# EAGLE library part RFM01A (library RFMxx)
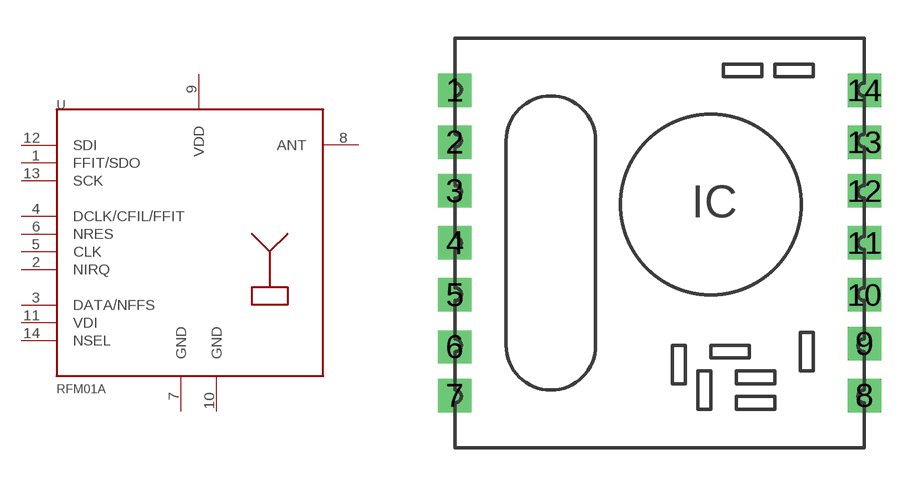
[diagram p3: symbol with the pads of RFM1; footprint RFM1]

Designator prefix -

## RFM01A  [RFM1]
1  FFIT/SDO
2  NIRQ
3  DATA/NFFS
4  DCLK/CFIL/FFIT
5  CLK
6  NRES
7  GND  pwr
8  ANT  out
9  VDD  pwr
10  GND  pwr
11  VDI
12  SDI
13  SCK
14  NSEL

## Footprint RFM1 (pad centres in mm)
drill 0.8 square: 1 -7.62,5.08; 2 -7.62,3.048; 3 -7.62,1.143; 4 -7.62,-0.889; 5 -7.62,-2.921; 6 -7.62,-4.953; 7 -7.62,-6.858; 8 8.382,-6.858; 9 8.382,-4.826; 10 8.382,-2.921; 11 8.382,-0.889; 12 8.382,1.143; 13 8.382,3.048; 14 8.382,5.08